# EAGLE library part AD7606C-16 (library Bauteile)
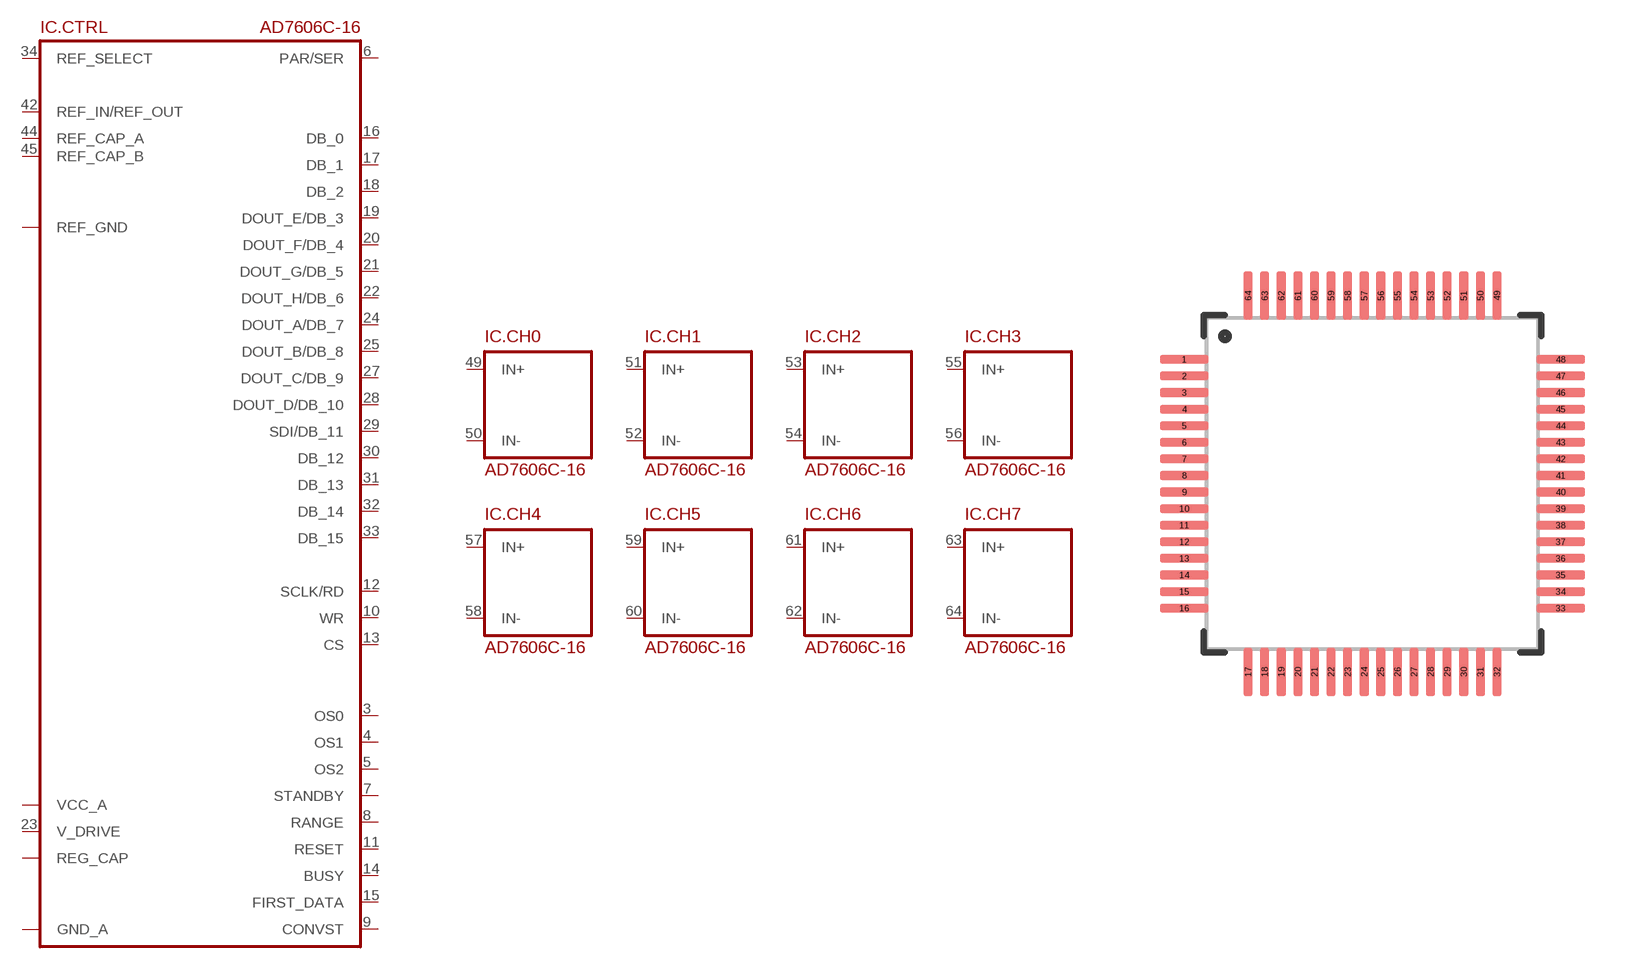
[diagram p179: symbol with the pads of LQFP64-0.5; footprint LQFP64-0.5]

Designator prefix IC; gates .CTRL=AD7606C-16 .CH0=ADC_CHANNEL .CH1=ADC_CHANNEL .CH2=ADC_CHANNEL .CH3=ADC_CHANNEL .CH4=ADC_CHANNEL .CH5=ADC_CHANNEL .CH6=ADC_CHANNEL .CH7=ADC_CHANNEL

## AD7606C-16  [LQFP64-0.5]
1  .CTRL:VCC_A
2  .CTRL:GND_A
3  .CTRL:OS0
4  .CTRL:OS1
5  .CTRL:OS2
6  .CTRL:PAR/SER
7  .CTRL:STANDBY
8  .CTRL:RANGE
9  .CTRL:CONVST
10  .CTRL:WR
11  .CTRL:RESET
12  .CTRL:SCLK/RD
13  .CTRL:CS
14  .CTRL:BUSY
15  .CTRL:FIRST_DATA
16  .CTRL:DB_0
17  .CTRL:DB_1
18  .CTRL:DB_2
19  .CTRL:DOUT_E/DB_3
20  .CTRL:DOUT_F/DB_4
21  .CTRL:DOUT_G/DB_5
22  .CTRL:DOUT_H/DB_6
23  .CTRL:V_DRIVE
24  .CTRL:DOUT_A/DB_7
25  .CTRL:DOUT_B/DB_8
26  .CTRL:GND_A
27  .CTRL:DOUT_C/DB_9
28  .CTRL:DOUT_D/DB_10
29  .CTRL:SDI/DB_11
30  .CTRL:DB_12
31  .CTRL:DB_13
32  .CTRL:DB_14
33  .CTRL:DB_15
34  .CTRL:REF_SELECT
35  .CTRL:GND_A
36  .CTRL:REG_CAP
37  .CTRL:VCC_A
38  .CTRL:VCC_A
39  .CTRL:REG_CAP
40  .CTRL:GND_A
41  .CTRL:GND_A
42  .CTRL:REF_IN/REF_OUT
43  .CTRL:REF_GND
44  .CTRL:REF_CAP_A
45  .CTRL:REF_CAP_B
46  .CTRL:REF_GND
47  .CTRL:GND_A
48  .CTRL:VCC_A
49  .CH0:IN+
50  .CH0:IN-
51  .CH1:IN+
52  .CH1:IN-
53  .CH2:IN+
54  .CH2:IN-
55  .CH3:IN+
56  .CH3:IN-
57  .CH4:IN+
58  .CH4:IN-
59  .CH5:IN+
60  .CH5:IN-
61  .CH6:IN+
62  .CH6:IN-
63  .CH7:IN+
64  .CH7:IN-

## Footprint LQFP64-0.5 (pad centres in mm)
smd 1.47 x 0.28: 1 -5.67,3.75; 2 -5.67,3.25; 3 -5.67,2.75; 4 -5.67,2.25; 5 -5.67,1.75; 6 -5.67,1.25; 7 -5.67,0.75; 8 -5.67,0.25; 9 -5.67,-0.25; 10 -5.67,-0.75; 11 -5.67,-1.25; 12 -5.67,-1.75; 13 -5.67,-2.25; 14 -5.67,-2.75; 15 -5.67,-3.25; 16 -5.67,-3.75; 33 5.67,-3.75; 34 5.67,-3.25; 35 5.67,-2.75; 36 5.67,-2.25; 37 5.67,-1.75; 38 5.67,-1.25; 39 5.67,-0.75; 40 5.67,-0.25; 41 5.67,0.25; 42 5.67,0.75; 43 5.67,1.25; 44 5.67,1.75; 45 5.67,2.25; 46 5.67,2.75; 47 5.67,3.25; 48 5.67,3.75
smd 0.28 x 1.47: 17 -3.75,-5.67; 18 -3.25,-5.67; 19 -2.75,-5.67; 20 -2.25,-5.67; 21 -1.75,-5.67; 22 -1.25,-5.67; 23 -0.75,-5.67; 24 -0.25,-5.67; 25 0.25,-5.67; 26 0.75,-5.67; 27 1.25,-5.67; 28 1.75,-5.67; 29 2.25,-5.67; 30 2.75,-5.67; 31 3.25,-5.67; 32 3.75,-5.67; 49 3.75,5.67; 50 3.25,5.67; 51 2.75,5.67; 52 2.25,5.67; 53 1.75,5.67; 54 1.25,5.67; 55 0.75,5.67; 56 0.25,5.67; 57 -0.25,5.67; 58 -0.75,5.67; 59 -1.25,5.67; 60 -1.75,5.67; 61 -2.25,5.67; 62 -2.75,5.67; 63 -3.25,5.67; 64 -3.75,5.67